# Altium schematic symbol library opto-honeywell-3000.SCHLIB: 65 symbols
Pins are listed as number, name and electrical type; pins without a type are passive.

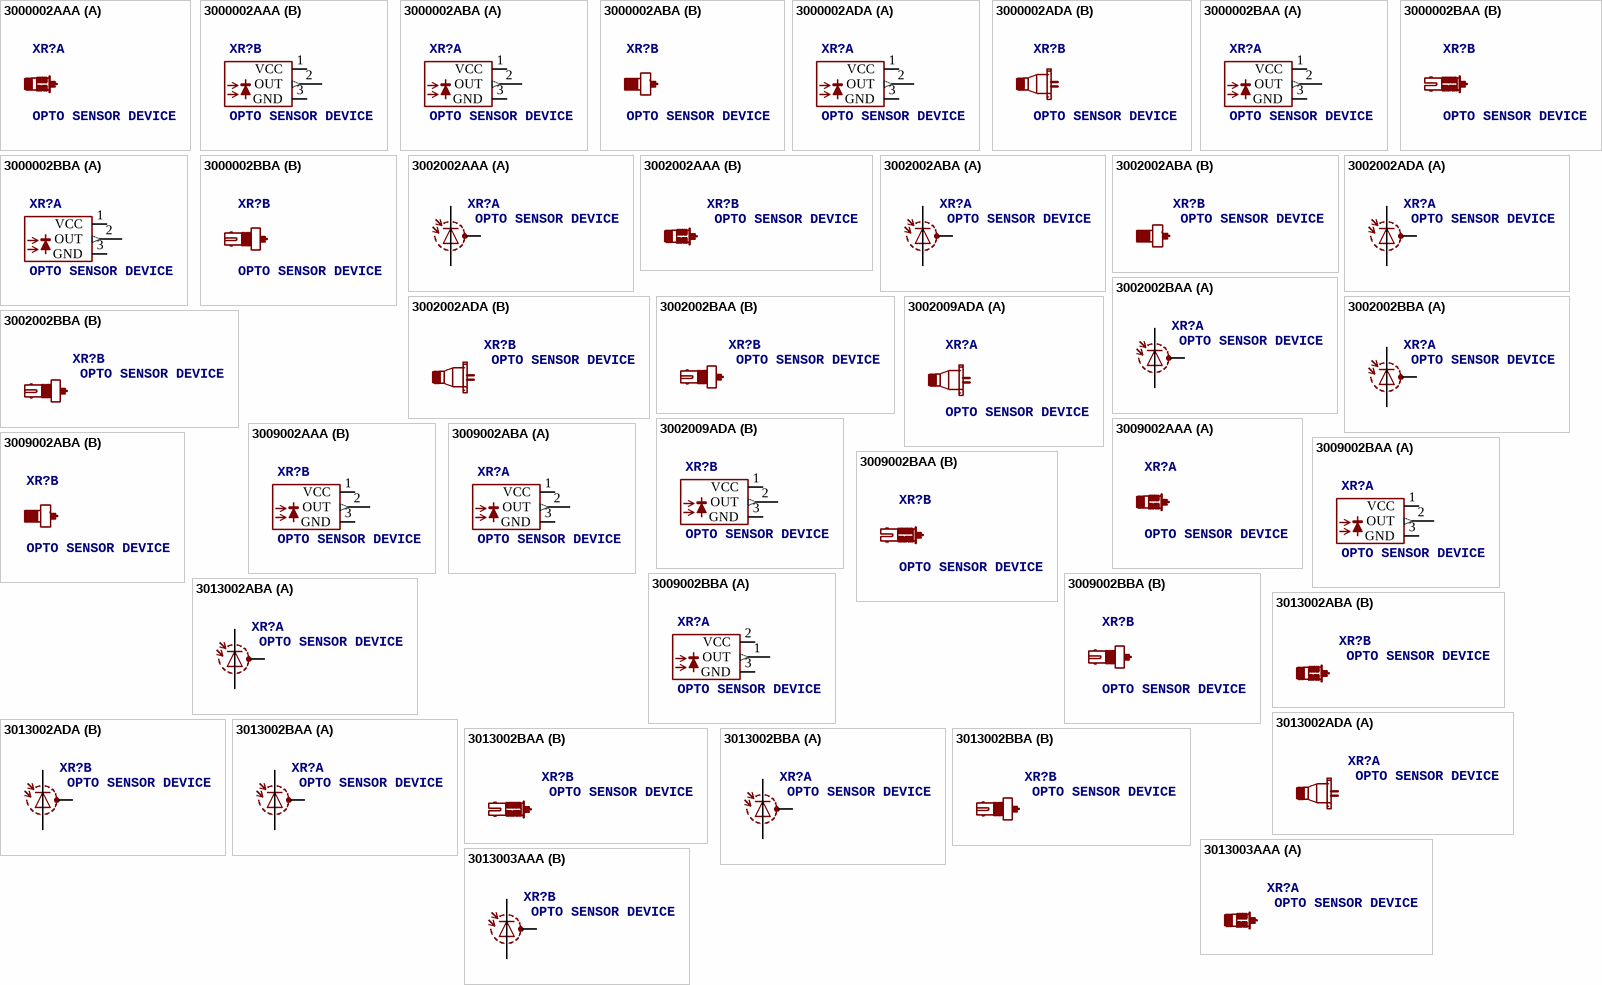
[diagram p0: symbols 3000002AAA to 3013003AAA]

## 3000002AAA
designator XR?, comment OPTO SENSOR DEVICE
OC_FARNELL: unknown; OC_NEWARK: unknown
footprint AAA-3
part B pins: 1 VCC (power), 2 OUT (out), 3 GND (power)

## 3000002ABA
designator XR?, comment OPTO SENSOR DEVICE
OC_FARNELL: unknown; OC_NEWARK: unknown
footprint ABA-3
part A pins: 1 VCC (power), 2 OUT (out), 3 GND (power)

## 3000002ADA
designator XR?, comment OPTO SENSOR DEVICE
OC_FARNELL: unknown; OC_NEWARK: unknown
footprint ADA-3
part A pins: 1 VCC (power), 2 OUT (out), 3 GND (power)

## 3000002BAA
designator XR?, comment OPTO SENSOR DEVICE
OC_FARNELL: unknown; OC_NEWARK: unknown
footprint BAA-3
part A pins: 1 VCC (power), 2 OUT (out), 3 GND (power)

## 3000002BBA
designator XR?, comment OPTO SENSOR DEVICE
OC_FARNELL: unknown; OC_NEWARK: unknown
footprint BBA-3
part A pins: 1 VCC (power), 2 OUT (out), 3 GND (power)

## 3002002AAA
designator XR?, comment OPTO SENSOR DEVICE
OC_FARNELL: unknown; OC_NEWARK: unknown
footprint AAA-3
part A pins: 1 A, 2 C, 3 S

## 3002002ABA
designator XR?, comment OPTO SENSOR DEVICE
OC_FARNELL: unknown; OC_NEWARK: unknown
footprint ABA-3
part A pins: 1 A, 2 C, 3 S

## 3002002ADA
designator XR?, comment OPTO SENSOR DEVICE
OC_FARNELL: unknown; OC_NEWARK: unknown
footprint ADA-3
part A pins: 1 A, 2 C, 3 S

## 3002002BAA
designator XR?, comment OPTO SENSOR DEVICE
OC_FARNELL: unknown; OC_NEWARK: unknown
footprint BAA-3
part A pins: 1 A, 2 C, 3 S

## 3002002BBA
designator XR?, comment OPTO SENSOR DEVICE
OC_FARNELL: unknown; OC_NEWARK: unknown
footprint BBA-3
part A pins: 1 A, 2 C, 3 S

## 3002009ADA
designator XR?, comment OPTO SENSOR DEVICE
OC_FARNELL: unknown; OC_NEWARK: unknown
footprint ADA-3
part B pins: 1 VCC (power), 2 OUT (out), 3 GND (power)

## 3009002AAA
designator XR?, comment OPTO SENSOR DEVICE
OC_FARNELL: unknown; OC_NEWARK: unknown
footprint AAA-3
part B pins: 1 VCC (power), 2 OUT (out), 3 GND (power)

## 3009002ABA
designator XR?, comment OPTO SENSOR DEVICE
OC_FARNELL: unknown; OC_NEWARK: unknown
footprint ABA-3
part A pins: 1 VCC (power), 2 OUT (out), 3 GND (power)

## 3009002BAA
designator XR?, comment OPTO SENSOR DEVICE
OC_FARNELL: unknown; OC_NEWARK: unknown
footprint BAA-3
part A pins: 1 VCC (power), 2 OUT (out), 3 GND (power)

## 3009002BBA
designator XR?, comment OPTO SENSOR DEVICE
OC_FARNELL: unknown; OC_NEWARK: unknown
footprint BBA-3
part A pins: 1 OUT (out), 2 VCC (power), 3 GND (power)

## 3013002ABA
designator XR?, comment OPTO SENSOR DEVICE
OC_FARNELL: unknown; OC_NEWARK: unknown
footprint ABA-3
part A pins: 1 A, 2 C, 3 S

## 3013002ADA
designator XR?, comment OPTO SENSOR DEVICE
OC_FARNELL: unknown; OC_NEWARK: unknown
footprint ADA-3
part B pins: 1 A, 2 C, 3 S

## 3013002BAA
designator XR?, comment OPTO SENSOR DEVICE
OC_FARNELL: unknown; OC_NEWARK: unknown
footprint BAA-3
part A pins: 1 A, 2 C, 3 S

## 3013002BBA
designator XR?, comment OPTO SENSOR DEVICE
OC_FARNELL: unknown; OC_NEWARK: unknown
footprint BBA-3
part A pins: 1 A, 2 C, 3 S

## 3013003AAA
designator XR?, comment OPTO SENSOR DEVICE
OC_FARNELL: unknown; OC_NEWARK: unknown
footprint AAA-3
part B pins: 1 A, 2 C, 3 S

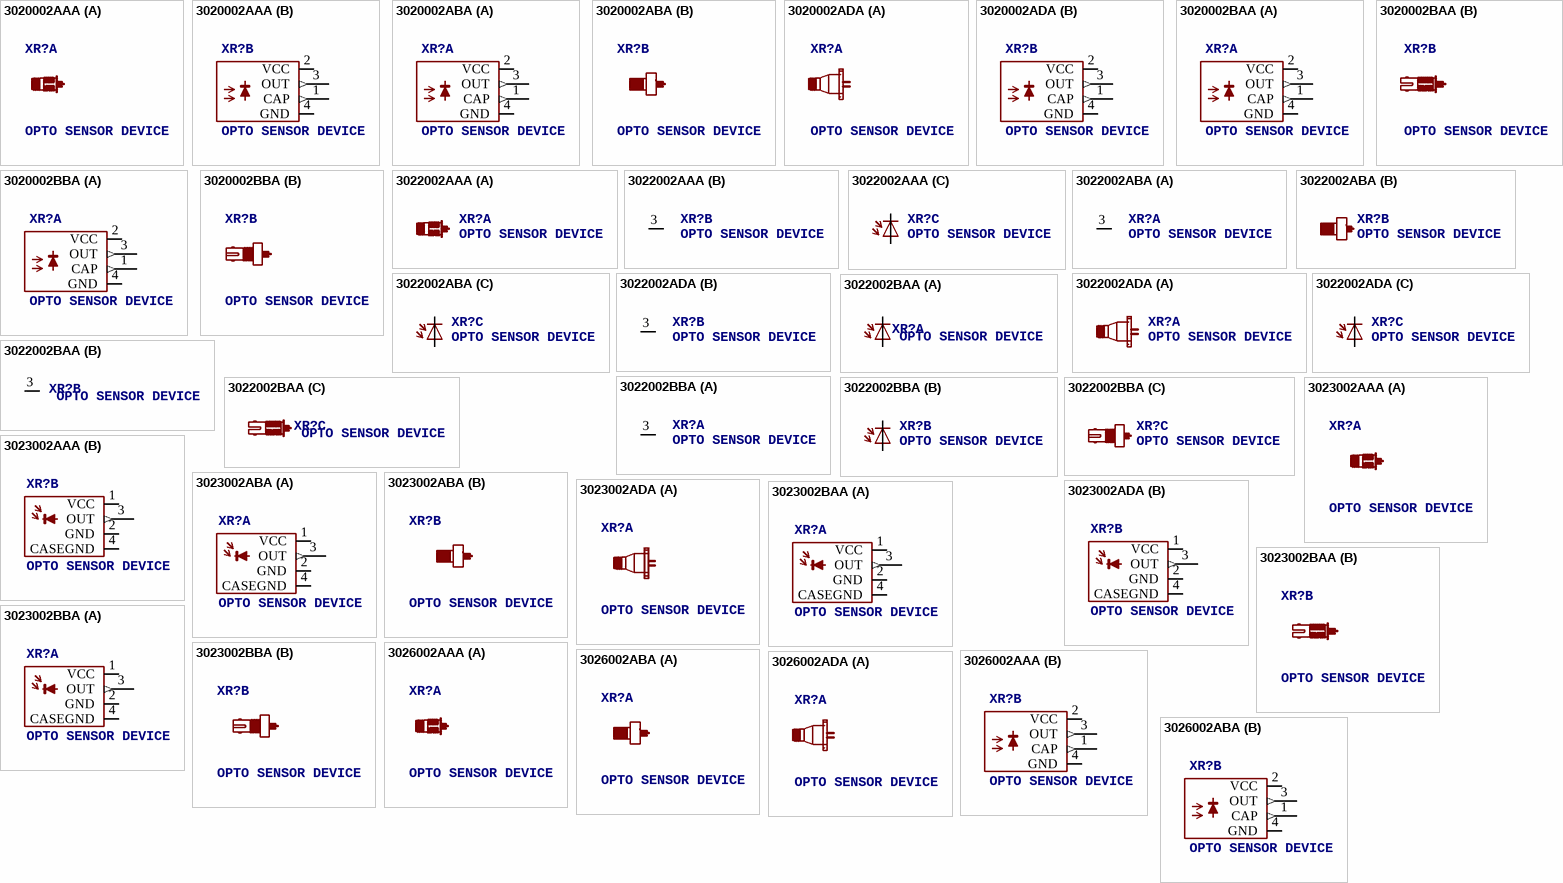
[diagram p1: symbols 3020002AAA to 3026002ADA]

## 3020002AAA
designator XR?, comment OPTO SENSOR DEVICE
OC_FARNELL: unknown; OC_NEWARK: unknown
footprint AAA-4
part B pins: 1 CAP (out), 2 VCC (power), 3 OUT (out), 4 GND (power)

## 3020002ABA
designator XR?, comment OPTO SENSOR DEVICE
OC_FARNELL: unknown; OC_NEWARK: unknown
footprint ABA-4
part A pins: 1 CAP (out), 2 VCC (power), 3 OUT (out), 4 GND (power)

## 3020002ADA
designator XR?, comment OPTO SENSOR DEVICE
OC_FARNELL: unknown; OC_NEWARK: unknown
footprint ADA-4
part B pins: 1 CAP (out), 2 VCC (power), 3 OUT (out), 4 GND (power)

## 3020002BAA
designator XR?, comment OPTO SENSOR DEVICE
OC_FARNELL: unknown; OC_NEWARK: unknown
footprint BAA-4
part A pins: 1 CAP (out), 2 VCC (power), 3 OUT (out), 4 GND (power)

## 3020002BBA
designator XR?, comment OPTO SENSOR DEVICE
OC_FARNELL: unknown; OC_NEWARK: unknown
footprint BBA-4
part A pins: 1 CAP (out), 2 VCC (power), 3 OUT (out), 4 GND (power)

## 3022002AAA
designator XR?, comment OPTO SENSOR DEVICE
OC_FARNELL: unknown; OC_NEWARK: unknown
footprint AAA-3
part B pins: 3 NC
part C pins: 1 A, 2 C

## 3022002ABA
designator XR?, comment OPTO SENSOR DEVICE
OC_FARNELL: unknown; OC_NEWARK: unknown
footprint ABA-3
part A pins: 3 NC
part C pins: 1 A, 2 C

## 3022002ADA
designator XR?, comment OPTO SENSOR DEVICE
OC_FARNELL: unknown; OC_NEWARK: unknown
footprint ADA-3
part B pins: 3 NC
part C pins: 1 A, 2 C

## 3022002BAA
designator XR?, comment OPTO SENSOR DEVICE
OC_FARNELL: unknown; OC_NEWARK: unknown
footprint BAA-3
part A pins: 1 A, 2 C
part B pins: 3 NC

## 3022002BBA
designator XR?, comment OPTO SENSOR DEVICE
OC_FARNELL: unknown; OC_NEWARK: unknown
footprint BBA-3
part A pins: 3 NC
part B pins: 1 A, 2 C

## 3023002AAA
designator XR?, comment OPTO SENSOR DEVICE
OC_FARNELL: unknown; OC_NEWARK: unknown
footprint AAA-4
part B pins: 1 VCC (power), 2 GND (power), 3 OUT (out), 4 CASEGND (power)

## 3023002ABA
designator XR?, comment OPTO SENSOR DEVICE
OC_FARNELL: unknown; OC_NEWARK: unknown
footprint ABA-4
part A pins: 1 VCC (power), 2 GND (power), 3 OUT (out), 4 CASEGND (power)

## 3023002ADA
designator XR?, comment OPTO SENSOR DEVICE
OC_FARNELL: unknown; OC_NEWARK: unknown
footprint ADA-4
part B pins: 1 VCC (power), 2 GND (power), 3 OUT (out), 4 CASEGND (power)

## 3023002BAA
designator XR?, comment OPTO SENSOR DEVICE
OC_FARNELL: unknown; OC_NEWARK: unknown
footprint BAA-4
part A pins: 1 VCC (power), 2 GND (power), 3 OUT (out), 4 CASEGND (power)

## 3023002BBA
designator XR?, comment OPTO SENSOR DEVICE
OC_FARNELL: unknown; OC_NEWARK: unknown
footprint BBA-4
part A pins: 1 VCC (power), 2 GND (power), 3 OUT (out), 4 CASEGND (power)

## 3026002AAA
designator XR?, comment OPTO SENSOR DEVICE
OC_FARNELL: unknown; OC_NEWARK: unknown
footprint AAA-4
part B pins: 1 CAP (out), 2 VCC (power), 3 OUT (out), 4 GND (power)

## 3026002ABA
designator XR?, comment OPTO SENSOR DEVICE
OC_FARNELL: unknown; OC_NEWARK: unknown
footprint ABA-4
part B pins: 1 CAP (out), 2 VCC (power), 3 OUT (out), 4 GND (power)

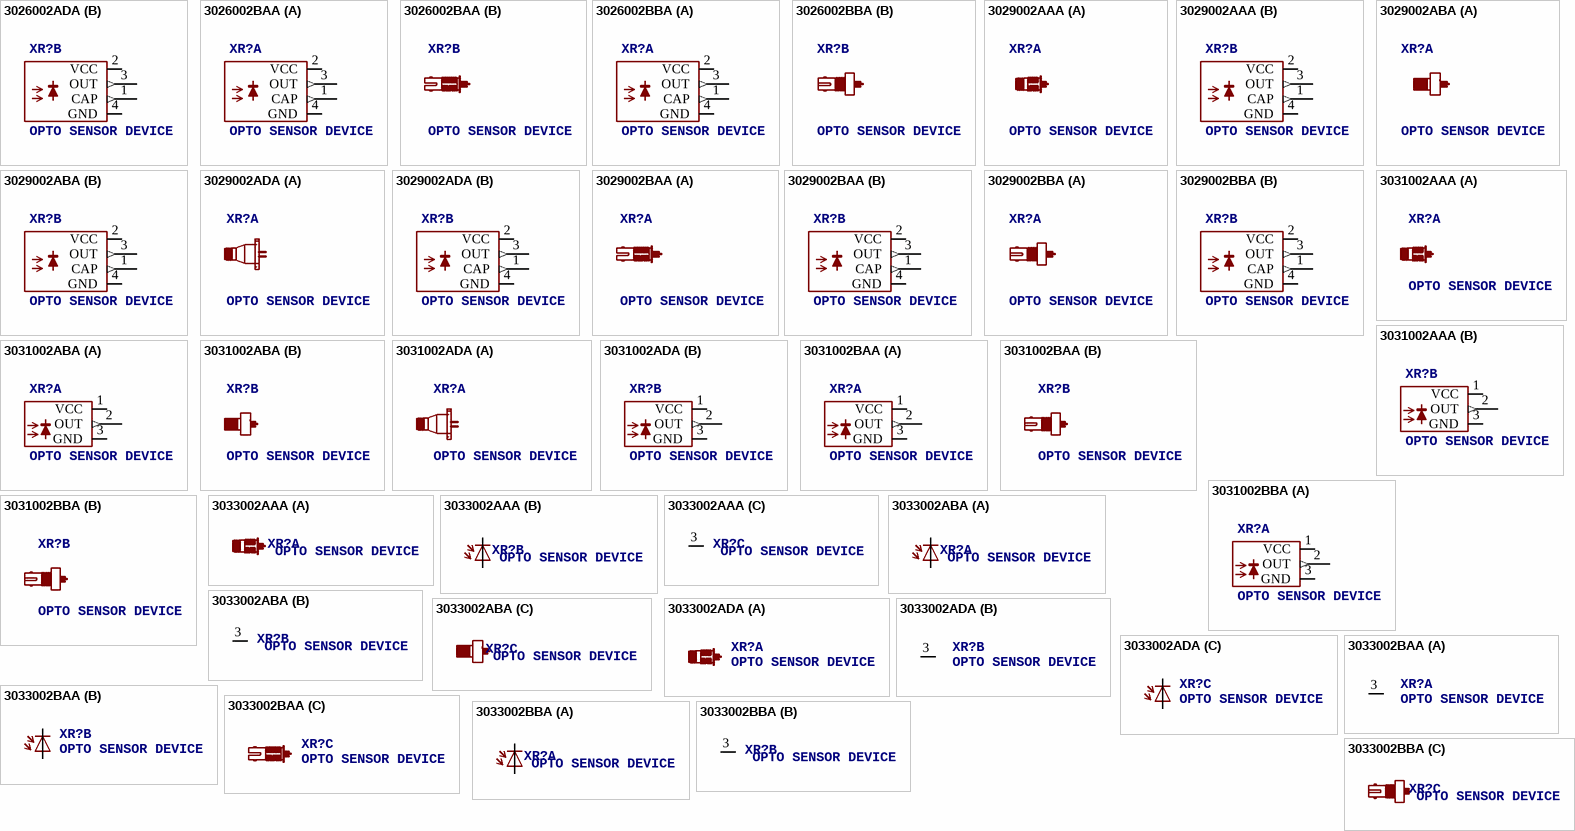
[diagram p2: symbols 3026002ADA to 3033002BBA]

## 3026002ADA
designator XR?, comment OPTO SENSOR DEVICE
OC_FARNELL: unknown; OC_NEWARK: unknown
footprint ADA-4
part B pins: 1 CAP (out), 2 VCC (power), 3 OUT (out), 4 GND (power)

## 3026002BAA
designator XR?, comment OPTO SENSOR DEVICE
OC_FARNELL: unknown; OC_NEWARK: unknown
footprint BAA-4
part A pins: 1 CAP (out), 2 VCC (power), 3 OUT (out), 4 GND (power)

## 3026002BBA
designator XR?, comment OPTO SENSOR DEVICE
OC_FARNELL: unknown; OC_NEWARK: unknown
footprint BBA-4
part A pins: 1 CAP (out), 2 VCC (power), 3 OUT (out), 4 GND (power)

## 3029002AAA
designator XR?, comment OPTO SENSOR DEVICE
OC_FARNELL: unknown; OC_NEWARK: unknown
footprint AAA-4
part B pins: 1 CAP (out), 2 VCC (power), 3 OUT (out), 4 GND (power)

## 3029002ABA
designator XR?, comment OPTO SENSOR DEVICE
MPN: HFD3029-002/ABA; MF: MICRO SWITCH; OC_FARNELL: unknown; OC_NEWARK: 71J4512
footprint ABA-4
part B pins: 1 CAP (out), 2 VCC (power), 3 OUT (out), 4 GND (power)

## 3029002ADA
designator XR?, comment OPTO SENSOR DEVICE
OC_FARNELL: unknown; OC_NEWARK: unknown
footprint ADA-4
part B pins: 1 CAP (out), 2 VCC (power), 3 OUT (out), 4 GND (power)

## 3029002BAA
designator XR?, comment OPTO SENSOR DEVICE
OC_FARNELL: unknown; OC_NEWARK: unknown
footprint BAA-4
part B pins: 1 CAP (out), 2 VCC (power), 3 OUT (out), 4 GND (power)

## 3029002BBA
designator XR?, comment OPTO SENSOR DEVICE
MPN: HFD3029-002/BBA; MF: HONEYWELL; OC_FARNELL: unknown; OC_NEWARK: 07J1289
footprint BAA-4
part B pins: 1 CAP (out), 2 VCC (power), 3 OUT (out), 4 GND (power)

## 3031002AAA
designator XR?, comment OPTO SENSOR DEVICE
OC_FARNELL: unknown; OC_NEWARK: unknown
footprint AAA-3
part B pins: 1 VCC (power), 2 OUT (out), 3 GND (power)

## 3031002ABA
designator XR?, comment OPTO SENSOR DEVICE
OC_FARNELL: unknown; OC_NEWARK: unknown
footprint ABA-3
part A pins: 1 VCC (power), 2 OUT (out), 3 GND (power)

## 3031002ADA
designator XR?, comment OPTO SENSOR DEVICE
OC_FARNELL: unknown; OC_NEWARK: unknown
footprint ADA-3
part B pins: 1 VCC (power), 2 OUT (out), 3 GND (power)

## 3031002BAA
designator XR?, comment OPTO SENSOR DEVICE
OC_FARNELL: unknown; OC_NEWARK: unknown
footprint BBA-3
part A pins: 1 VCC (power), 2 OUT (out), 3 GND (power)

## 3031002BBA
designator XR?, comment OPTO SENSOR DEVICE
OC_FARNELL: unknown; OC_NEWARK: unknown
footprint BBA-3
part A pins: 1 VCC (power), 2 OUT (out), 3 GND (power)

## 3033002AAA
designator XR?, comment OPTO SENSOR DEVICE
OC_FARNELL: unknown; OC_NEWARK: unknown
footprint AAA-3
part B pins: 1 A, 2 C
part C pins: 3 NC

## 3033002ABA
designator XR?, comment OPTO SENSOR DEVICE
OC_FARNELL: unknown; OC_NEWARK: unknown
footprint ABA-3
part A pins: 1 A, 2 C
part B pins: 3 NC

## 3033002ADA
designator XR?, comment OPTO SENSOR DEVICE
OC_FARNELL: unknown; OC_NEWARK: unknown
footprint AAA-3
part B pins: 3 NC
part C pins: 1 A, 2 C

## 3033002BAA
designator XR?, comment OPTO SENSOR DEVICE
OC_FARNELL: unknown; OC_NEWARK: unknown
footprint BAA-3
part A pins: 3 NC
part B pins: 1 A, 2 C

## 3033002BBA
designator XR?, comment OPTO SENSOR DEVICE
OC_FARNELL: unknown; OC_NEWARK: unknown
footprint BBA-3
part A pins: 1 A, 2 C
part B pins: 3 NC

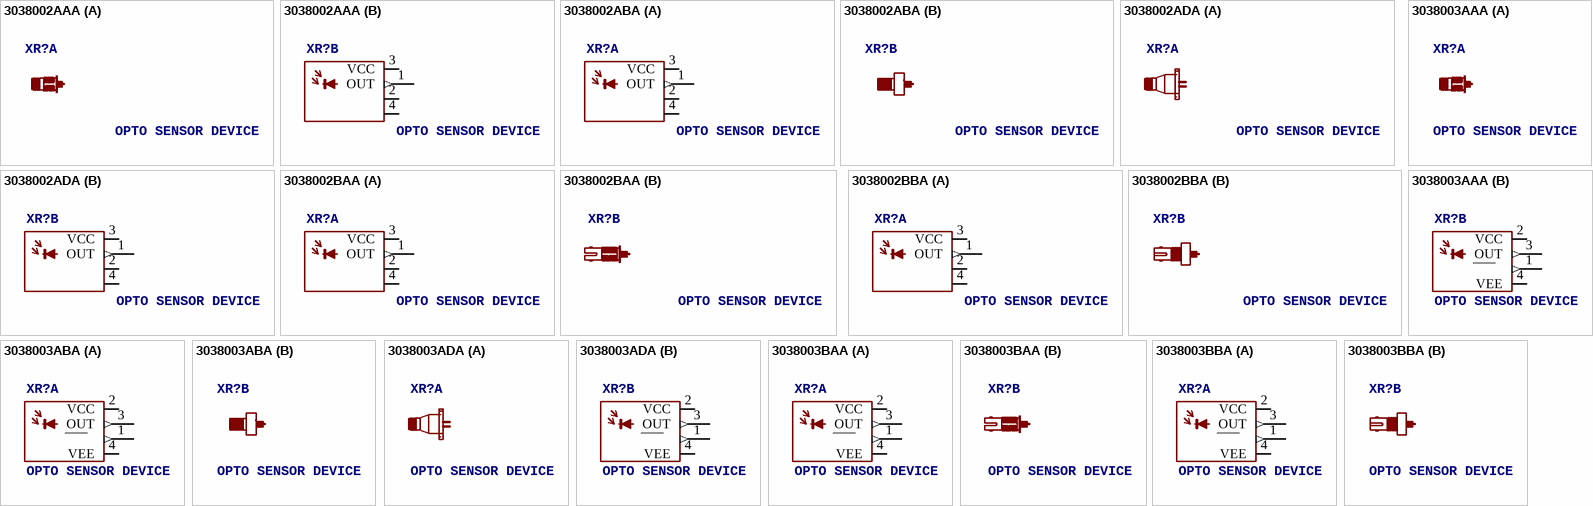
[diagram p3: symbols 3038002AAA to 3038003BBA]

## 3038002AAA
designator XR?, comment OPTO SENSOR DEVICE
OC_FARNELL: unknown; OC_NEWARK: unknown
footprint AAA-4
part B pins: 1 OUT (out), 2 VEE@1 (power), 3 VCC (power), 4 VEE@2 (power)

## 3038002ABA
designator XR?, comment OPTO SENSOR DEVICE
OC_FARNELL: unknown; OC_NEWARK: unknown
footprint ABA-4
part A pins: 1 OUT (out), 2 VEE@1 (power), 3 VCC (power), 4 VEE@2 (power)

## 3038002ADA
designator XR?, comment OPTO SENSOR DEVICE
OC_FARNELL: unknown; OC_NEWARK: unknown
footprint ADA-4
part B pins: 1 OUT (out), 2 VEE@1 (power), 3 VCC (power), 4 VEE@2 (power)

## 3038002BAA
designator XR?, comment OPTO SENSOR DEVICE
OC_FARNELL: unknown; OC_NEWARK: unknown
footprint BAA-4
part A pins: 1 OUT (out), 2 VEE@1 (power), 3 VCC (power), 4 VEE@2 (power)

## 3038002BBA
designator XR?, comment OPTO SENSOR DEVICE
OC_FARNELL: unknown; OC_NEWARK: unknown
footprint BBA-4
part A pins: 1 OUT (out), 2 VEE@1 (power), 3 VCC (power), 4 VEE@2 (power)

## 3038003AAA
designator XR?, comment OPTO SENSOR DEVICE
OC_FARNELL: unknown; OC_NEWARK: unknown
footprint AAA-4
part B pins: 1 !OUT (out), 2 VCC (power), 3 OUT (out), 4 VEE (power)

## 3038003ABA
designator XR?, comment OPTO SENSOR DEVICE
OC_FARNELL: unknown; OC_NEWARK: unknown
footprint ABA-4
part A pins: 1 !OUT (out), 2 VCC (power), 3 OUT (out), 4 VEE (power)

## 3038003ADA
designator XR?, comment OPTO SENSOR DEVICE
OC_FARNELL: unknown; OC_NEWARK: unknown
footprint ADA-4
part B pins: 1 !OUT (out), 2 VCC (power), 3 OUT (out), 4 VEE (power)

## 3038003BAA
designator XR?, comment OPTO SENSOR DEVICE
OC_FARNELL: unknown; OC_NEWARK: unknown
footprint BAA-4
part A pins: 1 !OUT (out), 2 VCC (power), 3 OUT (out), 4 VEE (power)

## 3038003BBA
designator XR?, comment OPTO SENSOR DEVICE
OC_FARNELL: unknown; OC_NEWARK: unknown
footprint BBA-4
part A pins: 1 !OUT (out), 2 VCC (power), 3 OUT (out), 4 VEE (power)